# Altium footprint library SON.PcbLib: 3 footprints
Each footprint in its own frame and in the unit in brackets; x right, y up, seen from the top. Pads: shape width x height; smd on the part's side, far side on the other; paste and mask are expansions set on the pad; w line width, h text height; cw(c..) or ccw(c..) is an arc to the next point about the centre after c.
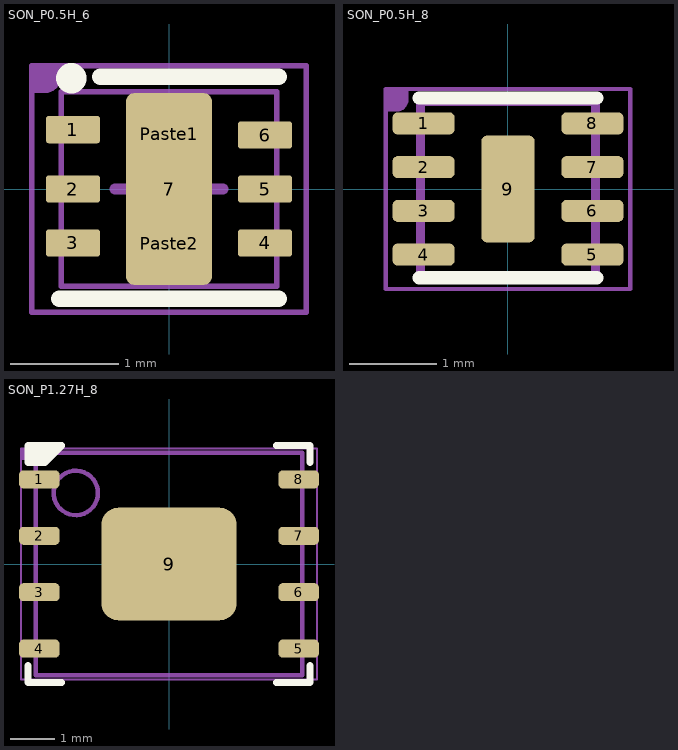
[diagram p0: the footprints below, top view; thin cyan lines are the x and y axes]

## SON_P0.5H_6 [mil]
height 39.37
pads (9):
  rrect20% 19.68x10 smd: 1(-35,21.65) 2(-35,0) 3(-35,-19.69) 4(35,-19.69) 5(35,0) 6(35,19.68)
  rrect20% 31.5x70 smd paste-100: 7(0,0)
  rrect20% 30x15 on Top Paste mask+1.97: Paste1(0,20) Paste2(0,-20)
Top Overlay:
  circle w10: c-35.62,40.39 r0.49
  lines w6: -40,-40 40,-40 ; -25,41 40,41
Top Solder:
  region: -43,19.69 -43,-19.68 -27,-19.68 -27,19.69
  region: 27,19.69 27,-19.68 43,-19.68 43,19.69
Mechanical 13:
  lines w2: -39.37,-35.43 -39.37,35.43 39.37,35.43 39.37,-35.43 -39.37,-35.43
Mechanical 14:
  region: -50,45 -40,45 -40,40 -40,39.01 -40.76,37.17 -42.17,35.76 -44.01,35 -45,35 -50,35
  lines w1.97: -50,-45 -50,45 50,45 50,-45 -50,-45
Mechanical 15:
  lines w3.94: -19.68,0 19.69,0 ; 0,-19.69 0,19.68
3D body "PSON50P200X100_HS-7N.step": height 39.37, standoff -0.04, extent -39.41,-35.43 39.41,35.43

## SON_P0.5H_8 [mil] "SON, 8-Leads, Body 2.00x2.00mm, Pitch"
height 35.43
pads (9):
  rrect50% 28x10 smd mask+2: 1(-38,29.53) 2(-38,9.84) 3(-38,-9.84) 4(-38,-29.53) 5(38,-29.53) 6(38,-9.84) 7(38,9.84) 8(38,29.53)
  rrect20% 24x48 smd mask+2: 9(0,0)
Top Overlay:
  lines w6: -40,-40 40,-40 ; -40,41 40,41
Top Solder:
  region: 52,-29.53 52,29.53 24,29.53 24,-29.53
  region: -52,29.53 -52,-29.53 -24,-29.53 -24,29.53
Mechanical 13:
  lines w2: -10,0 10,0 ; 0,-10 0,10
  lines w3.94: -39.37,-39.37 39.37,-39.37 39.37,39.37 -39.37,39.37 -39.37,-39.37
Mechanical 14:
  region: -55,45 -45,45 -45,40 -45,39.01 -45.76,37.17 -47.17,35.76 -49.01,35 -50,35 -55,35
  lines w1.97: -55,-45 -55,45 55,45 55,-45 -55,-45
  text ".Designator" at -41,-25 h100
3D body "SON50P200X90_HS-9L.step": height 35.43, standoff -0.04, extent -39.41,-39.37 39.41,39.37

## SON_P1.27H_8 [mil] "SON, 8-Leads, Body 5.00x6.00mm, Pitch 1.27mm, Thermal Pad 3.40x4.30mm, IPC High Density"
height 29.53
pads (9):
  rrect50% 36x16 smd: 1(-115,75) 2(-115,25) 3(-115,-25) 4(-115,-75) 5(115,-75) 6(115,-25) 7(115,25) 8(115,75)
  rrect30% 120x100 smd paste-84.65: 9(0,0)
Top Overlay:
  region: -125,105 -95,105 -110,90 -125,90
  lines w6: -125,-90 -125,-105 -95,-105 ; 95,-105 125,-105 125,-90 ; 95,105 125,105 125,90 ; -125,90 -110,90 -95,105 -125,105 -125,90
Top Paste:
  rectangle: -24.21,-18.31 24.21,18.31
Mechanical 13:
  circle w3.94: c-82.68,62.99 r19.68
  lines w4: -19.68,0 19.69,0 ; 0,-19.68 0,19.68 ; -118.11,-98.43 118.11,-98.43 118.11,98.43 -118.11,98.43 -118.11,-98.43
Mechanical 14:
  region: -131.3,102.36 -121.3,102.36 -121.3,97.36 -121.3,96.37 -122.06,94.53 -123.47,93.12 -125.3,92.36 -126.3,92.36 -131.3,92.36
  lines w2: -131.3,-102.36 131.3,-102.36 131.3,102.36 -131.3,102.36 -131.3,-102.36
  text ".Designator" at -41,-25 h100
3D body "SON127P600X75_HS-9L.step": height 29.53, standoff 0, extent -118.9,-98.43 118.9,98.43